# EAGLE library part 68610614122 (library Eagle_FPC_CONNECTOR_AND_FFC_CAB (rev18c))
WR-FPC 1.00mm SMT ZIF Horizontal Top Contact, 6 Pins=>Code : Con_FPC_ZIF_1.00_68610614122 <http://katalog.we-online.de/media/images/eican/Con_FPC_ZIF_1.00_6861xx14122_pf2.jpg> Details see: http://katalog.we-online.de/en/em/686_1xx_141_22 Created 2014-07-09, Karrer Zheng 2014 (C) Würth Elektronik
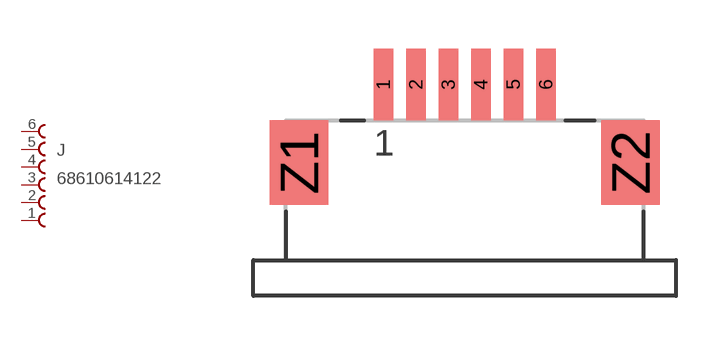
[diagram p39: symbol with the pads of 68610614122; footprint 68610614122]

Designator prefix J

## 68610614122  [68610614122]
1  6  pas
2  5  pas
3  4  pas
4  3  pas
5  2  pas
6  1  pas

## Footprint 68610614122 (pad centres in mm)
WR-FPC 1.00mm SMT ZIF Horizontal Top Contact, 6 Pins
smd 0.6 x 2.2: 1 -2.5,2.4; 2 -1.5,2.4; 3 -0.5,2.4; 4 0.5,2.4; 5 1.5,2.4; 6 2.5,2.4
smd 1.8 x 2.6: Z1 -5.1,0; Z2 5.1,0